# Altium footprint library 30.PcbLib: 1 footprints
Each footprint in its own frame and in the unit in brackets; x right, y up, seen from the top. Pads: shape width x height; smd on the part's side, far side on the other; paste and mask are expansions set on the pad; w line width, h text height; cw(c..) or ccw(c..) is an arc to the next point about the centre after c.
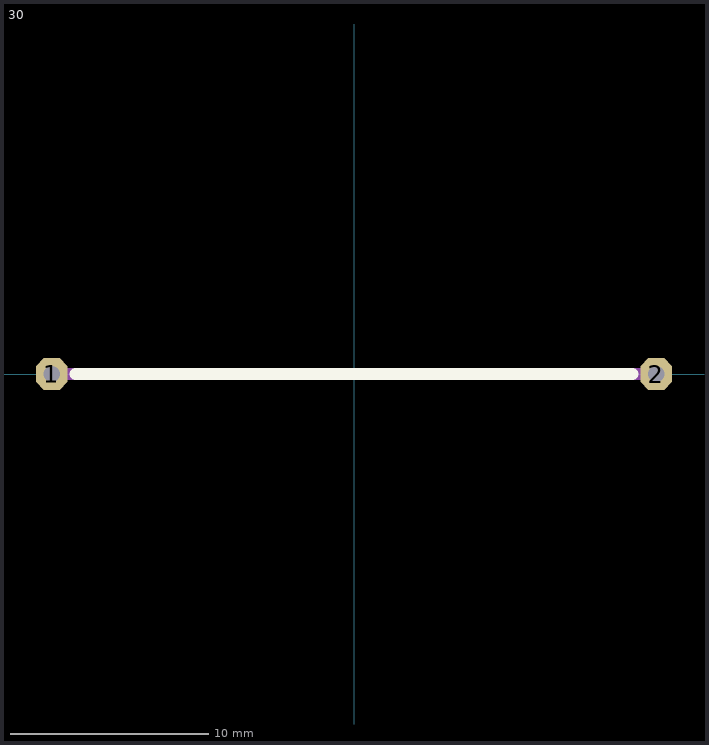
[diagram p0: the footprint, top view; thin cyan lines are the x and y axes]

## 30 [mil]
pads (2):
  oct 63x63 hole 32: 1(-600,0) 2(600,0)
Top Overlay:
  lines w24: -553,0 553,0
Mechanical 16:
  lines w24: -600,0 -555,0 ; 555,0 600,0